# EAGLE library part OLED (library oled)
real type of this display is: UG-2864ASGGG14 datasheet: display <http://www.gabotronics.com/download/datasheets/UG-2864ASGGG14.pdf> SSD1305 <http://www.gabotronics.com/download/datasheets/ssd1305.pdf>
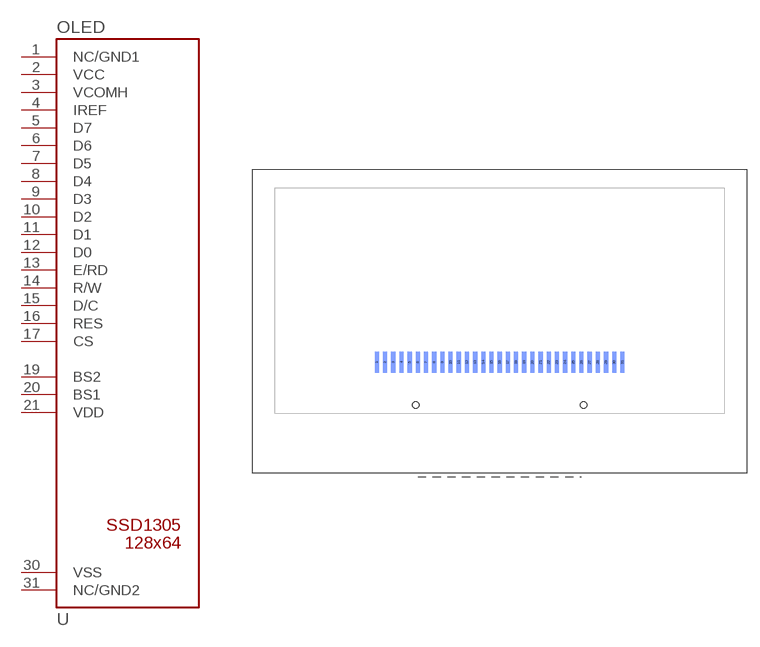
[diagram p0: symbol with the pads of OLED_242; footprint OLED_242]

Designator prefix -

## OLED_242  [OLED_242]
1  NC/GND1  nc
2  VCC  pwr
3  VCOMH  pwr
4  IREF  in
5  D7
6  D6
7  D5
8  D4
9  D3
10  D2
11  D1
12  D0
13  E/RD  in
14  R/W  in
15  D/C  in
16  RES  in
17  CS  in
19  BS2  in
20  BS1  in
21  VDD  pwr
30  VSS  pwr
31  NC/GND2  nc

## Footprint OLED_242 (pad centres in mm)
smd 0.508 x 2.54 bottom: 1 -15,-5; 2 -14,-5; 3 -13,-5; 4 -12,-5; 5 -11,-5; 6 -10,-5; 7 -9,-5; 8 -8,-5; 9 -7,-5; 10 -6,-5; 11 -5,-5; 12 -4,-5; 13 -3,-5; 14 -2,-5; 15 -1,-5; 16 0,-5; 17 1,-5; 18 2,-5; 19 3,-5; 20 4,-5; 21 5,-5; 22 6,-5; 23 7,-5; 24 8,-5; 25 9,-5; 26 10,-5; 27 11,-5; 28 12,-5; 29 13,-5; 30 14,-5; 31 15,-5
hole 0.8 at -10.25,-10.25
hole 0.8 at 10.25,-10.25